# Altium footprint library Components - 21.05.23 - 21.02.PcbLib: 1 footprints
Each footprint in its own frame and in the unit in brackets; x right, y up, seen from the top. Pads: shape width x height; smd on the part's side, far side on the other; paste and mask are expansions set on the pad; w line width, h text height; cw(c..) or ccw(c..) is an arc to the next point about the centre after c.
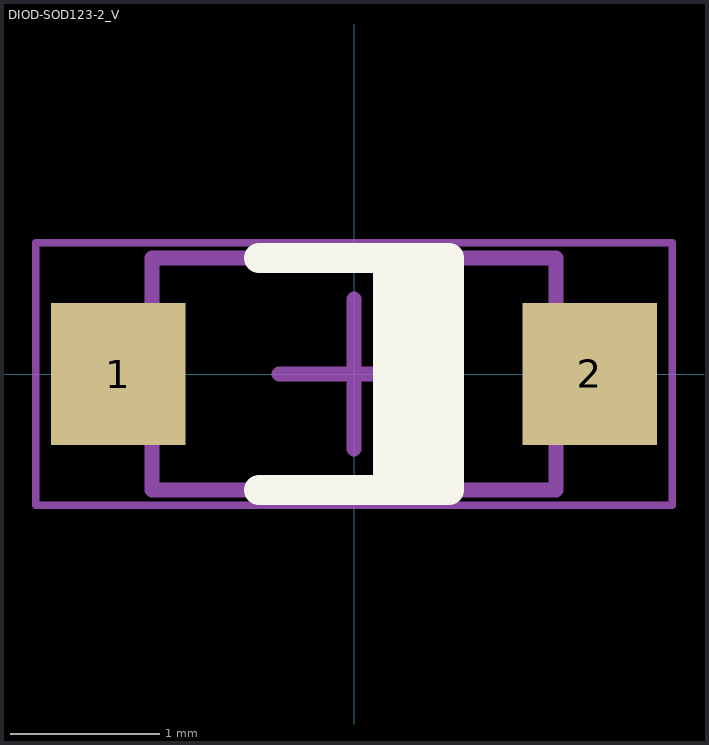
[diagram p0: the footprint, top view; thin cyan lines are the x and y axes]

## DIOD-SOD123-2_V [mm] "SOD123, 2-Leads, Body 2.7x1.55mm, Height 1.45mm"
height 1.45
pads (2):
  rect 0.9x0.95 smd: 1(-1.575,0) 2(1.575,0)
Top Overlay:
  rectangle: 0.127,-0.825 0.635,0.762
  lines w0.2: -0.635,-0.775 0.635,-0.775 0.635,0.775 -0.635,0.775
Mechanical 13:
  lines w0.1: -1.35,-0.775 1.35,-0.775 1.35,0.775 -1.35,0.775 -1.35,-0.775
Mechanical 15:
  lines w0.05: -2.125,-0.875 2.125,-0.875 2.125,0.875 -2.125,0.875 -2.125,-0.875
  lines w0.1: -0.5,0 0.5,0 ; 0,-0.5 0,0.5
3D body: height 1.45, standoff 0, extent -1.35,-0.775 1.35,0.775